# EAGLE library part AT24C512C-SHD-B (library ATMEL-AT24C512C-SHD-B)
EEPROM, SERIAL, 512K (64KX8), 8SOIC-Wide
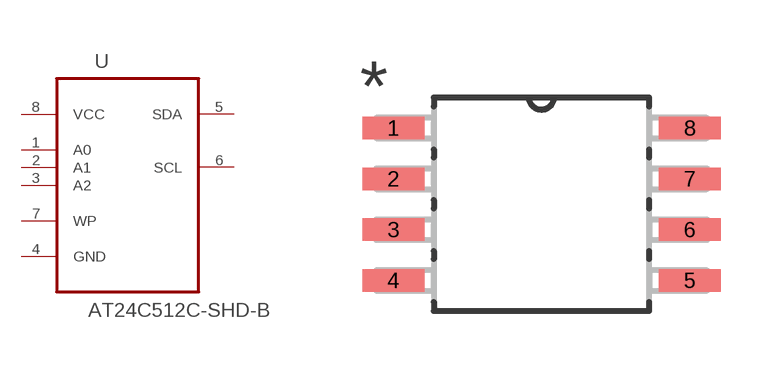
[diagram p0: symbol with the pads of SOIC127P798X216-8N; footprint SOIC127P798X216-8N]

Designator prefix U

## AT24C512C-SHD-B (MPN: AT24C512C-SHD-B; OC_FARNELL: 1972003; OC_NEWARK: 68T4124; PACKAGE: 8SOIC-Wide; SUPPLIER: ATMEL)  [SOIC127P798X216-8N]
1  A0  in
2  A1  in
3  A2  in
4  GND  pwr
5  SDA
6  SCL  in
7  WP  in
8  VCC  pwr

## Footprint SOIC127P798X216-8N (pad centres in mm)
smd 1.549 x 0.559: 1 -3.708,1.905; 2 -3.708,0.635; 3 -3.708,-0.635; 4 -3.708,-1.905; 5 3.708,-1.905; 6 3.708,-0.635; 7 3.708,0.635; 8 3.708,1.905